# Altium schematic symbol library PIF_LCD2004_I2C.SchLib: 1 symbol
Pins are listed as number, name and electrical type; pins without a type are passive.

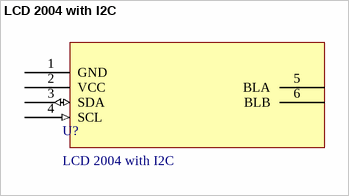
[diagram p0: symbol LCD 2004 with I2C]

## LCD 2004 with I2C
designator U?
footprint PCBComponent_1
pins: 1 GND (power), 2 VCC (power), 3 SDA (io), 4 SCL (in), 5 BLA (power), 6 BLB (power)